# Altium footprint library ODIN-W262.PcbLib: 1 footprints
Each footprint in its own frame and in the unit in brackets; x right, y up, seen from the top. Pads: shape width x height; smd on the part's side, far side on the other; paste and mask are expansions set on the pad; w line width, h text height; cw(c..) or ccw(c..) is an arc to the next point about the centre after c.
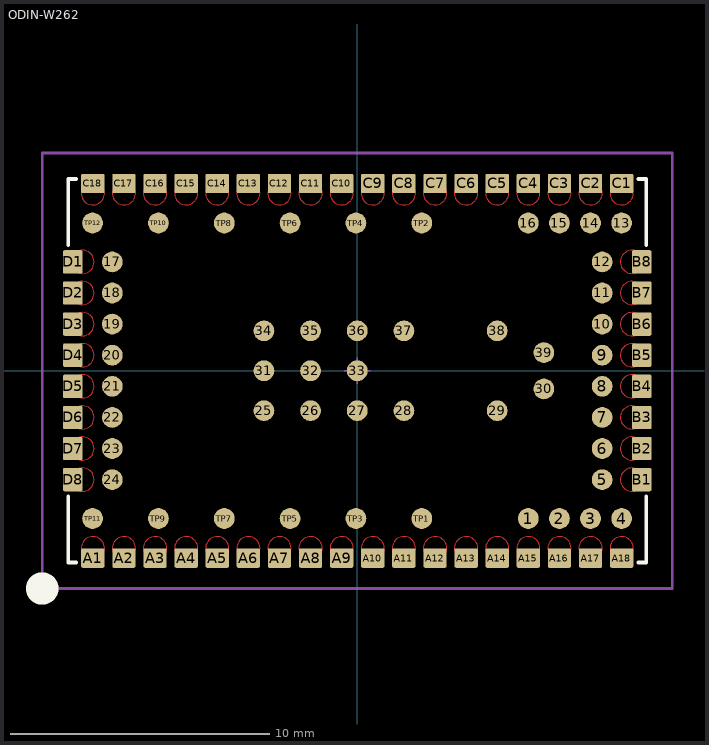
[diagram p0: the footprint, top view; thin cyan lines are the x and y axes]

## ODIN-W262 [mm]
pads (103):
  round 0.8 smd: 1(6.6,-5.7) 2(7.8,-5.7) 3(9,-5.7) 4(10.2,-5.7) 5(9.45,-4.2) 6(9.45,-3) 7(9.45,-1.8) 8(9.45,-0.6) 9(9.45,0.6) 10(9.45,1.8) 11(9.45,3) 12(9.45,4.2) 13(10.2,5.7) 14(9,5.7) 15(7.8,5.7) 16(6.6,5.7) 17(-9.45,4.2) 18(-9.45,3) 19(-9.45,1.8) 20(-9.45,0.6) 21(-9.45,-0.6) 22(-9.45,-1.8) 23(-9.45,-3) 24(-9.45,-4.2) 25(-3.6,-1.54) 26(-1.8,-1.54) 27(0,-1.54) 28(1.8,-1.54) 29(5.4,-1.54) 30(7.2,-0.7) 31(-3.6,0) 32(-1.8,0) 33(0,0) 34(-3.6,1.54) 35(-1.8,1.54) 36(0,1.54) 37(1.8,1.54) 38(5.4,1.54) 39(7.2,0.7) TP1(2.49,-5.7) TP2(2.49,5.7) TP3(-0.05,-5.7) TP4(-0.05,5.7) TP5(-2.59,-5.7) TP6(-2.59,5.7) TP7(-5.13,-5.7) TP8(-5.13,5.7) TP9(-7.67,-5.7) TP10(-7.67,5.7) TP11(-10.21,-5.7) TP12(-10.21,5.7)
  rrect15% 0.9x0.75 smd paste-1 mask+0: A1(-10.2,-7.225) A2(-9,-7.225) A3(-7.8,-7.225) A4(-6.6,-7.225) A5(-5.4,-7.225) A6(-4.2,-7.225) A7(-3,-7.225) A8(-1.8,-7.225) A9(-0.6,-7.225) A10(0.6,-7.225) A11(1.8,-7.225) A12(3,-7.225) A13(4.2,-7.225) A14(5.4,-7.225) A15(6.6,-7.225) A16(7.8,-7.225) A17(9,-7.225) A18(10.2,-7.225) C1(10.2,7.225) C2(9,7.225) C3(7.8,7.225) C4(6.6,7.225) C5(5.4,7.225) C6(4.2,7.225) C7(3,7.225) C8(1.8,7.225) C9(0.6,7.225) C10(-0.6,7.225) C11(-1.8,7.225) C12(-3,7.225) C13(-4.2,7.225) C14(-5.4,7.225) C15(-6.6,7.225) C16(-7.8,7.225) C17(-9,7.225) C18(-10.2,7.225)
  rrect15% 0.75x0.9 smd paste-1 mask+0: B1(10.975,-4.2) B2(10.975,-3) B3(10.975,-1.8) B4(10.975,-0.6) B5(10.975,0.6) B6(10.975,1.8) B7(10.975,3) B8(10.975,4.2) D1(-10.975,4.2) D2(-10.975,3) D3(-10.975,1.8) D4(-10.975,0.6) D5(-10.975,-0.6) D6(-10.975,-1.8) D7(-10.975,-3) D8(-10.975,-4.2)
Top Layer:
  circle w0: c-3,-6.85 r0.45
  circle w0: c-1.8,-6.85 r0.45
  circle w0: c-0.6,-6.85 r0.45
  circle w0: c0.6,-6.85 r0.45
  circle w0: c1.8,-6.85 r0.45
  circle w0: c3,-6.85 r0.45
  circle w0: c4.2,-6.85 r0.45
  circle w0: c5.4,-6.85 r0.45
  circle w0: c6.6,-6.85 r0.45
  circle w0: c7.8,-6.85 r0.45
  circle w0: c9,-6.85 r0.45
  circle w0: c10.2,-6.85 r0.45
  circle w0: c-10.2,-6.85 r0.45
  circle w0: c-9,-6.85 r0.45
  circle w0: c-7.8,-6.85 r0.45
  circle w0: c-6.6,-6.85 r0.45
  circle w0: c-5.4,-6.85 r0.45
  circle w0: c-4.2,-6.85 r0.45
  circle w0: c3,6.85 r0.45
  circle w0: c1.8,6.85 r0.45
  circle w0: c0.6,6.85 r0.45
  circle w0: c-0.6,6.85 r0.45
  circle w0: c-1.8,6.85 r0.45
  circle w0: c-3,6.85 r0.45
  circle w0: c-4.2,6.85 r0.45
  circle w0: c-5.4,6.85 r0.45
  circle w0: c-6.6,6.85 r0.45
  circle w0: c-7.8,6.85 r0.45
  circle w0: c-9,6.85 r0.45
  circle w0: c-10.2,6.85 r0.45
  circle w0: c10.2,6.85 r0.45
  circle w0: c9,6.85 r0.45
  circle w0: c7.8,6.85 r0.45
  circle w0: c6.6,6.85 r0.45
  circle w0: c5.4,6.85 r0.45
  circle w0: c4.2,6.85 r0.45
  circle w0: c-10.6,4.2 r0.45
  circle w0: c-10.6,3 r0.45
  circle w0: c-10.6,1.8 r0.45
  circle w0: c-10.6,0.6 r0.45
  circle w0: c-10.6,-0.6 r0.45
  circle w0: c-10.6,-1.8 r0.45
  circle w0: c-10.6,-3 r0.45
  circle w0: c-10.6,-4.2 r0.45
  circle w0: c10.6,-4.2 r0.45
  circle w0: c10.6,-3 r0.45
  circle w0: c10.6,-1.8 r0.45
  circle w0: c10.6,-0.6 r0.45
  circle w0: c10.6,0.6 r0.45
  circle w0: c10.6,1.8 r0.45
  circle w0: c10.6,3 r0.45
  circle w0: c10.6,4.2 r0.45
Top Overlay:
  circle w0.75: c-12.15,-8.4 r0.25
  lines w0.15: -11.15,-4.85 -11.15,-7.4 -10.85,-7.4 ; -11.15,4.85 -11.15,7.4 -10.85,7.4 ; 10.85,-7.4 11.15,-7.4 11.15,-4.85 ; 10.85,7.4 11.15,7.4 11.15,4.85
Top Paste:
  drawing of 52 lines, arcs and shapes, not listed
Top Solder:
  drawing of 56 lines, arcs and shapes, not listed
Mechanical 13:
  lines w0.05: -0.5,0 0.5,0 ; 0,-0.5 0,0.5
Mechanical 15:
  lines w0.1: -12.15,-8.4 -12.15,8.4 12.15,8.4 12.15,-8.4 -12.15,-8.4
3D body "ODIN-W262-05B.stp": height 4.8, standoff 0, extent -11.15,-7.4 11.15,7.4